# EAGLE library part LT3751IFE#PBF (library LT3751IFE#PBF)
Controller 5V to 24V Automotive 20-Pin TSSOP EP Tube Source: Datasheet <https://www.arrow.com/en/products/lt3751ifepbf/analog-devices?region=nac>
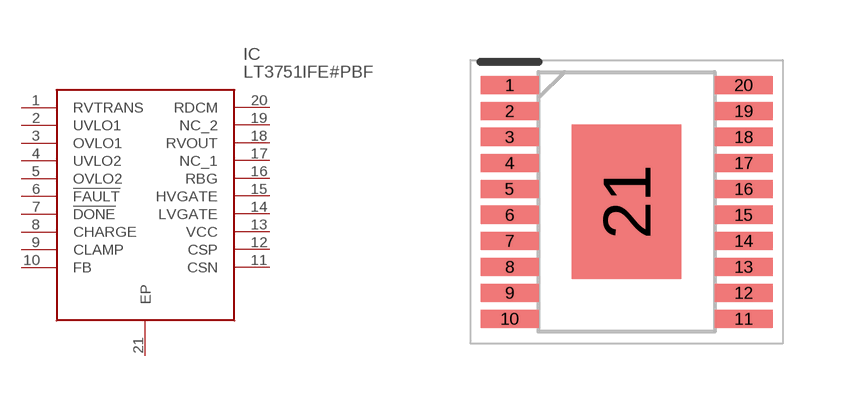
[diagram p0: symbol with the pads of SOP65P640X120-21N; footprint SOP65P640X120-21N]

Designator prefix IC

## LT3751IFE#PBF (Description: Controller 5V to 24V Automotive 20-Pin TSSOP EP Tube; Height: 1.2mm; Manufacturer_Name: Analog Devices; Manufacturer_Part_Number: LT3751IFE#PBF; Mouser_Part_Number: 584-LT3751IFE#PBF; Mouser_Price-Stock: https://www.mouser.co.uk/ProductDetail/Analog-Devices/LT3751IFEPBF?qs=hVkxg5c3xu8wGIOCrD9eEw%3D%3D)  [SOP65P640X120-21N]
1  RVTRANS
2  UVLO1
3  OVLO1
4  UVLO2
5  OVLO2
6  !FAULT
7  !DONE
8  CHARGE
9  CLAMP
10  FB
11  CSN
12  CSP
13  VCC
14  LVGATE
15  HVGATE
16  RBG
17  NC_1
18  RVOUT
19  NC_2
20  RDCM
21  EP

## Footprint SOP65P640X120-21N (pad centres in mm)
20-Lead Plastic TSSOP (4.4mm)
smd 1.45 x 0.45: 1 -2.925,2.925; 2 -2.925,2.275; 3 -2.925,1.625; 4 -2.925,0.975; 5 -2.925,0.325; 6 -2.925,-0.325; 7 -2.925,-0.975; 8 -2.925,-1.625; 9 -2.925,-2.275; 10 -2.925,-2.925; 11 2.925,-2.925; 12 2.925,-2.275; 13 2.925,-1.625; 14 2.925,-0.975; 15 2.925,-0.325; 16 2.925,0.325; 17 2.925,0.975; 18 2.925,1.625; 19 2.925,2.275; 20 2.925,2.925
smd 2.74 x 3.86: 21 0,0